# EAGLE library part BTT6010-1ERB (library PROFET - Infineon)
BTT6010-1ERB SOIC127P600X115-15N-V1 Smart High-Side Power Switch Single Channel
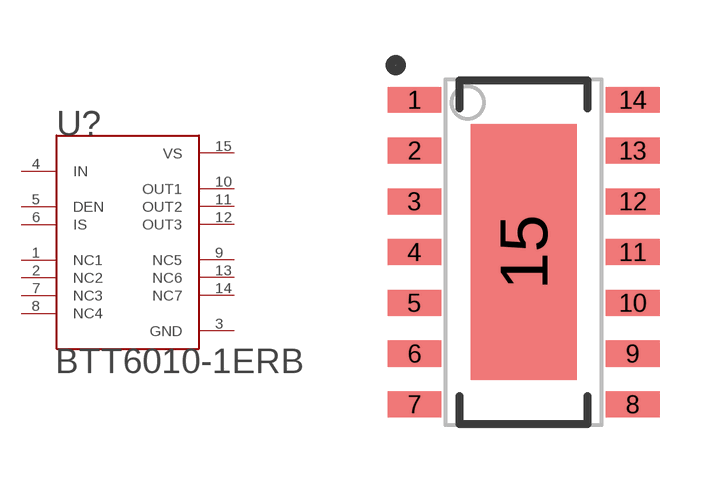
[diagram p16: symbol with the pads of SOIC127P600X115-15N-V1; footprint SOIC127P600X115-15N-V1]

Designator prefix U?

## BTT6010-1ERB  [SOIC127P600X115-15N-V1]
1  NC1  pas
2  NC2  pas
3  GND  pwr
4  IN  in
5  DEN  in
6  IS  out
7  NC3  pas
8  NC4  pas
9  NC5  pas
10  OUT1  out
11  OUT2  out
12  OUT3  out
13  NC6  pas
14  NC7  pas
15  VS  pwr

## Footprint SOIC127P600X115-15N-V1 (pad centres in mm)
Original name SOIC127P600X115-15N-V1 Max Component Height - 1.15mm
smd 1.34 x 0.65: 1 -2.73,3.81; 2 -2.73,2.54; 3 -2.73,1.27; 4 -2.73,0; 5 -2.73,-1.27; 6 -2.73,-2.54; 7 -2.73,-3.81; 8 2.73,-3.81; 9 2.73,-2.54; 10 2.73,-1.27; 11 2.73,0; 12 2.73,1.27; 13 2.73,2.54; 14 2.73,3.81
smd 2.65 x 6.4: 15 0,0